# Altium schematic symbol library Thermograph_PT100.SchLib: 12 symbols
Pins are listed as number, name and electrical type; pins without a type are passive.

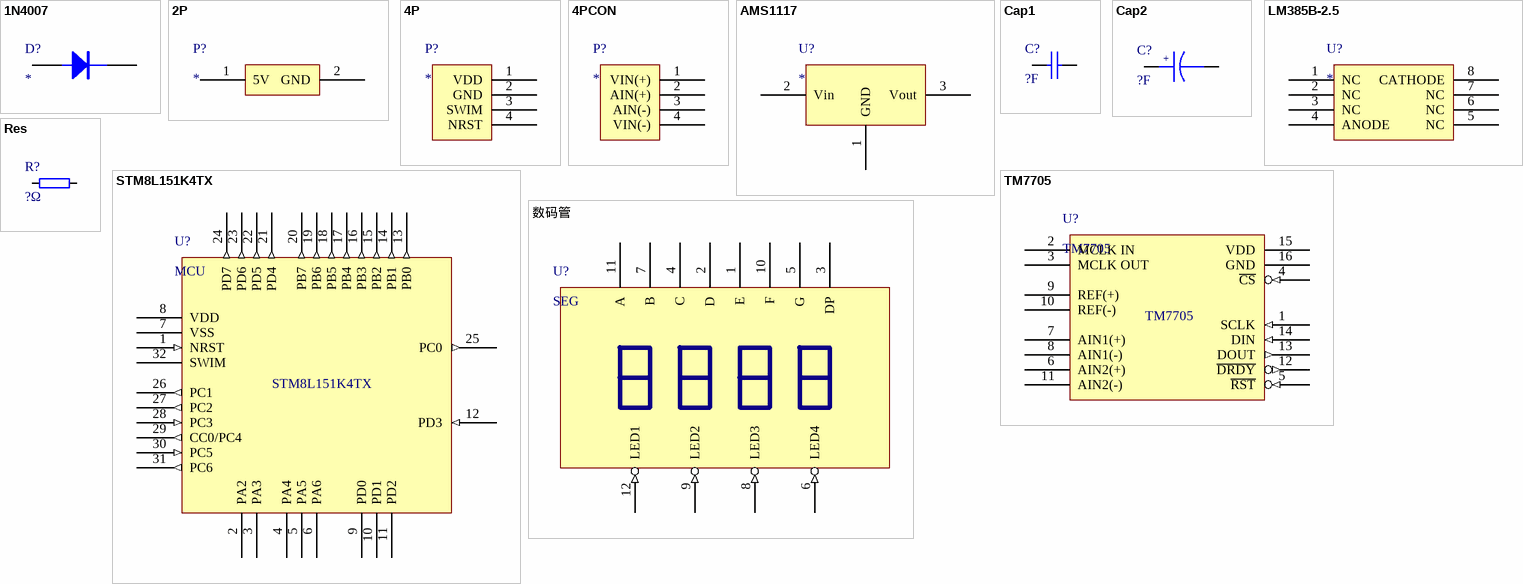
[diagram p0: symbols 1N4007 to 数码管]

## 1N4007
designator D?
1N4007
footprint 1N4007
pins: A, K

## 2P
designator P?
5V电源
footprint 2PXH
pins: 1 5V, 2 GND

## 4P
designator P?
footprint 4P2
pins: 1 VDD, 2 GND, 3 SWIM, 4 NRST

## 4PCON
designator P?
4P端口
footprint 4P1
pins: 1 VIN(+), 2 AIN(+), 3 AIN(-), 4 VIN(-)

## AMS1117
designator U?
footprint AMS1117-3.3
pins: 1 GND, 2 Vin (power), 3 Vout

## Cap1
designator C?, comment ?F
无极性电容
footprint cap1 (独石电容)
pins: 1, 2

## Cap2
designator C?, comment ?F
电解电容
footprint cap2 (电解电容(2.54mm))
pins: A, K
text: +

## LM385B-2.5
designator U?
2.5V稳压芯片
footprint LM385B-2.5 (SOP8(1.27mm))
pins: 1 NC, 2 NC, 3 NC, 4 ANODE, 5 NC, 6 NC, 7 NC, 8 CATHODE

## Res
designator R?, comment ?Ω
电阻
footprint RES
pins: 1, 2

## STM8L151K4TX
designator U?, comment MCU
STM8MCU
footprint STM8L151K4TX
pins: 1 NRST (in), 2 PA2, 3 PA3, 4 PA4, 5 PA5, 6 PA6, 7 VSS (power), 8 VDD (power), 9 PD0, 10 PD1, 11 PD2, 12 PD3 (in), 13 PB0 (out), 14 PB1 (out), 15 PB2 (out), 16 PB3 (out), 17 PB4 (out), 18 PB5 (out), 19 PB6 (out), 20 PB7 (out), 21 PD4 (out), 22 PD5 (out), 23 PD6 (out), 24 PD7 (out), 25 PC0 (out), 26 PC1 (out), 27 PC2 (out), 28 PC3 (in), 29 CC0/PC4 (out), 30 PC5 (in), 31 PC6 (out), 32 SWIM

## TM7705
designator U?
footprint TM7705 (SOP16(1.27))
pins: 1 SCLK (in), 2 MCLK IN, 3 MCLK OUT, 4 ~{CS} (in), 5 ~{RST} (in), 6 AIN2(+), 7 AIN1(+), 8 AIN1(-), 9 REF(+), 10 REF(-), 11 AIN2(-), 12 ~{DRDY} (out), 13 DOUT (out), 14 DIN (in), 15 VDD (power), 16 GND (power)

## 数码管
designator U?, comment SEG
数码管
footprint SEG
pins: 1 E "LEDA", 2 D "LEDD", 3 DP "LEDDP", 4 C "LEDC", 5 G "LEDG", 6 LED4 (in), 7 B "LEDB", 8 LED3 (in) "LED2=3", 9 LED2 (in), 10 F "LEDA", 11 A "LEDA", 12 LED1 (in)